# EAGLE library part MM912_637D1 (library freescalemod)
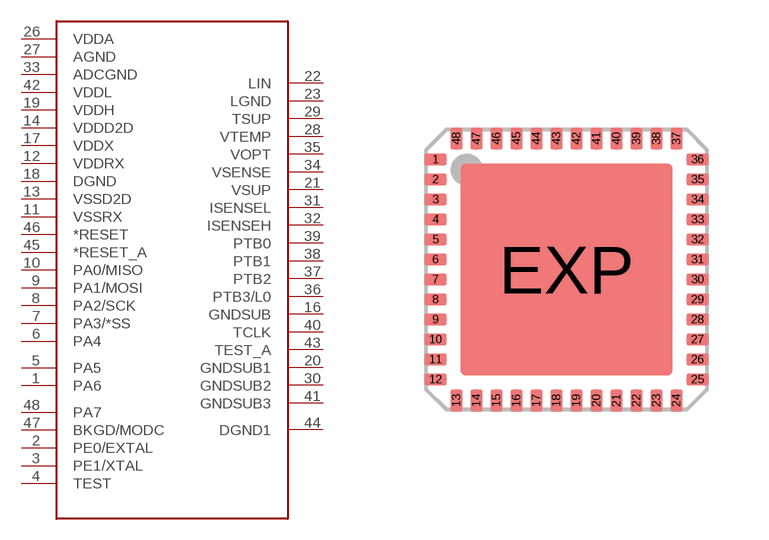
[diagram p13: symbol with the pads of QFN48; footprint QFN48]

Designator prefix -

## MM912_637D1  [QFN48]
1  PA6
2  PE0/EXTAL
3  PE1/XTAL
4  TEST
5  PA5
6  PA4
7  PA3/*SS
8  PA2/SCK
9  PA1/MOSI
10  PA0/MISO
11  VSSRX
12  VDDRX
13  VSSD2D
14  VDDD2D
16  GNDSUB
17  VDDX
18  DGND
19  VDDH
20  GNDSUB1
21  VSUP
22  LIN
23  LGND
26  VDDA
27  AGND
28  VTEMP
29  TSUP
30  GNDSUB2
31  ISENSEL
32  ISENSEH
33  ADCGND
34  VSENSE
35  VOPT
36  PTB3/L0
37  PTB2
38  PTB1
39  PTB0
40  TCLK
41  GNDSUB3
42  VDDL
43  TEST_A
44  DGND1
45  *RESET_A
46  *RESET
47  BKGD/MODC
48  PA7

## Footprint QFN48 (pad centres in mm)
48-pin QFN 7 x 7 mm LF48 48 Quad Flat Package No Leads Source: http://v4.cypress.com/cfuploads/img/products/cywusb6934.pdf
smd 0.55 x 0.3: 1 -3.275,2.75; 2 -3.275,2.25; 3 -3.275,1.75; 4 -3.275,1.25; 5 -3.275,0.75; 6 -3.275,0.25; 7 -3.275,-0.25; 8 -3.275,-0.75; 9 -3.275,-1.25; 10 -3.275,-1.75; 11 -3.275,-2.25; 12 -3.275,-2.75; 25 3.275,-2.75; 26 3.275,-2.25; 27 3.275,-1.75; 28 3.275,-1.25; 29 3.275,-0.75; 30 3.275,-0.25; 31 3.275,0.25; 32 3.275,0.75; 33 3.275,1.25; 34 3.275,1.75; 35 3.275,2.25; 36 3.275,2.75
smd 0.3 x 0.55: 13 -2.75,-3.275; 14 -2.25,-3.275; 15 -1.75,-3.275; 16 -1.25,-3.275; 17 -0.75,-3.275; 18 -0.25,-3.275; 19 0.25,-3.275; 20 0.75,-3.275; 21 1.25,-3.275; 22 1.75,-3.275; 23 2.25,-3.275; 24 2.75,-3.275; 37 2.75,3.275; 38 2.25,3.275; 39 1.75,3.275; 40 1.25,3.275; 41 0.75,3.275; 42 0.25,3.275; 43 -0.25,3.275; 44 -0.75,3.275; 45 -1.25,3.275; 46 -1.75,3.275; 47 -2.25,3.275; 48 -2.75,3.275
smd 5.309 x 5.309: EXP 0,0